# EAGLE library part EL2126CSZ (library Intersil_By_element14_Batch_1)
Ultra-Low Noise, Low Power, Wideband Amplifier
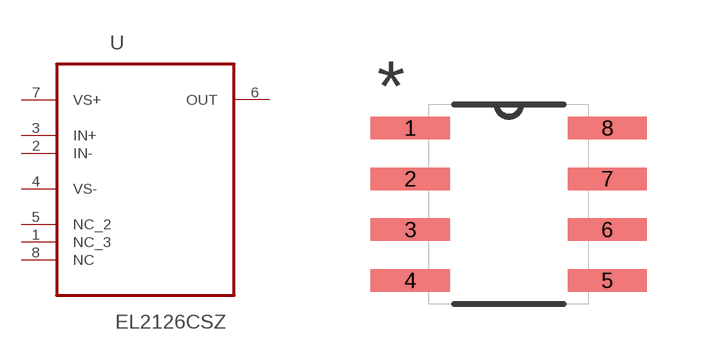
[diagram p54: symbol with the pads of SOIC127P600X175-8N; footprint SOIC127P600X175-8N]

Designator prefix U

## EL2126CSZ (MPN: EL2126CSZ; OC_FARNELL: 1562027; OC_NEWARK: 57K3127; PACKAGE: SOIC-8; SUPPLIER: INTERSIL)  [SOIC127P600X175-8N]
1  NC_3  nc
2  IN-  in
3  IN+  in
4  VS-  pwr
5  NC_2  nc
6  OUT  out
7  VS+  pwr
8  NC  nc

## Footprint SOIC127P600X175-8N (pad centres in mm)
smd 1.981 x 0.559: 1 -2.464,1.905; 2 -2.464,0.635; 3 -2.464,-0.635; 4 -2.464,-1.905; 5 2.464,-1.905; 6 2.464,-0.635; 7 2.464,0.635; 8 2.464,1.905